# Altium schematic symbol library KE02ZXXXXVLC.SchLib: 1 symbol
Pins are listed as number, name and electrical type; pins without a type are passive.

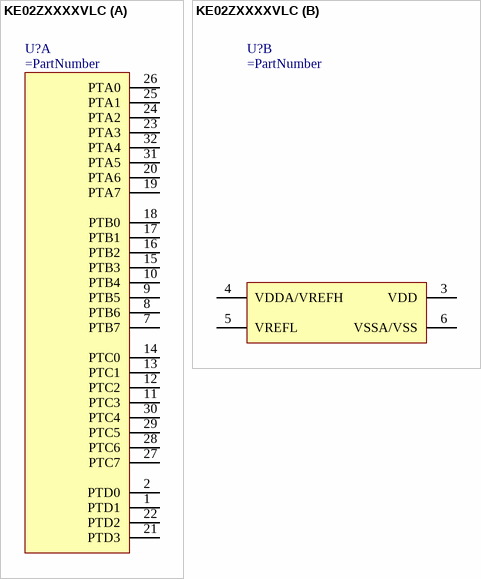
[diagram p0: symbol KE02ZXXXXVLC]

## KE02ZXXXXVLC
designator U?
part A pins: 1 PTD1, 2 PTD0, 7 PTB7, 8 PTB6, 9 PTB5, 10 PTB4, 11 PTC3, 12 PTC2, 13 PTC1, 14 PTC0, 15 PTB3, 16 PTB2, 17 PTB1, 18 PTB0, 19 PTA7, 20 PTA6, 21 PTD3, 22 PTD2, 23 PTA3, 24 PTA2, 25 PTA1, 26 PTA0, 27 PTC7, 28 PTC6, 29 PTC5, 30 PTC4, 31 PTA5, 32 PTA4
part B pins: 3 VDD, 4 VDDA/VREFH, 5 VREFL, 6 VSSA/VSS